# Altium integrated library Renesas Diode.IntLib: 1609 symbols (part 18 of 31)
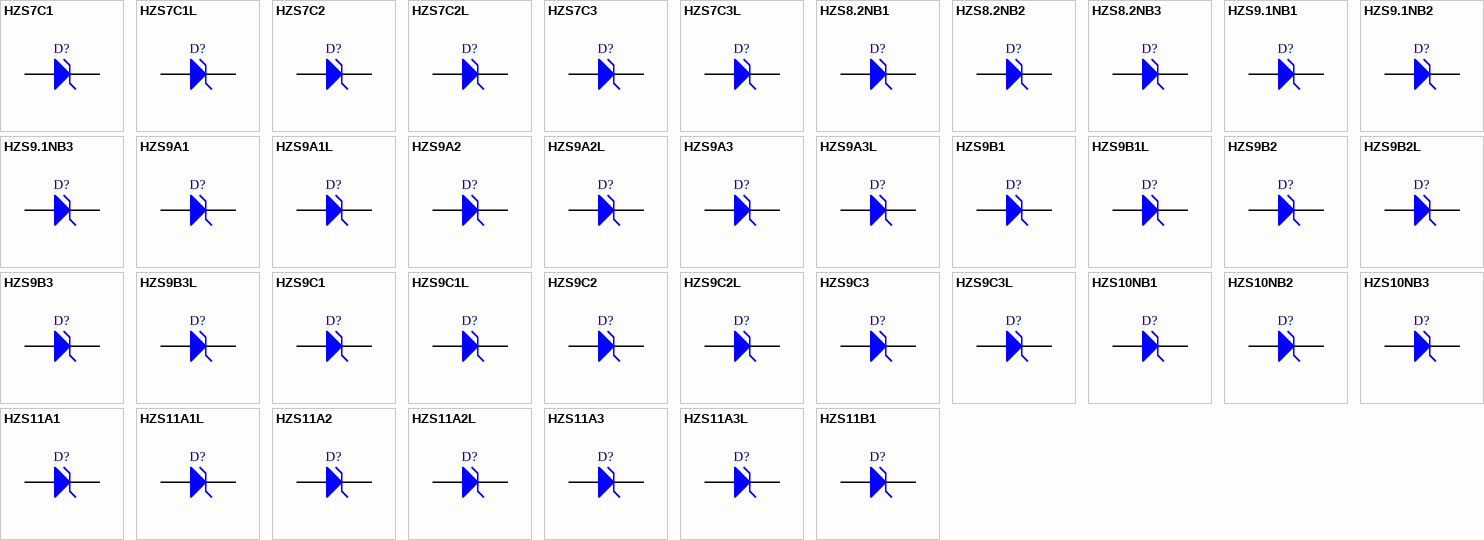
[diagram p62: symbols HZS7C1 to HZS11B1]

## HZS9A2L
designator D?
Silicon Epitaxial Planar Zener Diode for Low Noise Application; Published: 12-Feb-2010; DatasheetVersion: Rev.3.00, Nov-2007; PackageVersion: Jul-2006; PackageReference: GRZZ0002ZC-A; Publisher: Altium Limited; PackageDescription: Diode, Axial; Body 2.4 x 2.0 mm (LxDia.), Lead Dia. 0.4 mm (nom); ComponentLink1Description: Manufacturer Link; ComponentLink1URL: http://sg.renesas.com/fmwk.jsp?cnt=diode_landing.jsp&fp=/products/discrete/diodes/; ComponentLink2Description: Datasheet; ComponentLink2URL: http://documentation.renesas.com/eng/products/diode/rej03g0166_hzs_l.pdf; ComponentLink3Description: Packaging Specification; ComponentLink3URL: http://sg.renesas.com/media/products/common_info/package/pdf/diode/code/grzz0002zc_a.pdf
footprint GRZZ0002ZC-A (Diode, Axial; Body 2.4 x 2.2 mm (LxDia. max), Lead Dia. 0.4 mm (nom))
signal-integrity model HZS9A2L
pins: 1 K, 2 A

## HZS9A3
designator D?
Silicon Epitaxial Planar Zener Diode for Stabilized Power Supply; Published: 12-Feb-2010; DatasheetVersion: Rev.5.00, Oct-2007; PackageVersion: Jul-2006; PackageReference: GRZZ0002ZC-A; Publisher: Altium Limited; PackageDescription: Diode, Axial; Body 2.4 x 2.0 mm (LxDia.), Lead Dia. 0.4 mm (nom); ComponentLink1Description: Manufacturer Link; ComponentLink1URL: http://sg.renesas.com/fmwk.jsp?cnt=diode_landing.jsp&fp=/products/discrete/diodes/; ComponentLink2Description: Datasheet; ComponentLink2URL: http://documentation.renesas.com/eng/products/diode/rej03g0184_hzs.pdf; ComponentLink3Description: Packaging Specification; ComponentLink3URL: http://sg.renesas.com/media/products/common_info/package/pdf/diode/code/grzz0002zc_a.pdf
footprint GRZZ0002ZC-A (Diode, Axial; Body 2.4 x 2.2 mm (LxDia. max), Lead Dia. 0.4 mm (nom))
signal-integrity model HZS9A3
pins: 1 K, 2 A

## HZS9A3L
designator D?
Silicon Epitaxial Planar Zener Diode for Low Noise Application; Published: 12-Feb-2010; DatasheetVersion: Rev.3.00, Nov-2007; PackageVersion: Jul-2006; PackageReference: GRZZ0002ZC-A; Publisher: Altium Limited; PackageDescription: Diode, Axial; Body 2.4 x 2.0 mm (LxDia.), Lead Dia. 0.4 mm (nom); ComponentLink1Description: Manufacturer Link; ComponentLink1URL: http://sg.renesas.com/fmwk.jsp?cnt=diode_landing.jsp&fp=/products/discrete/diodes/; ComponentLink2Description: Datasheet; ComponentLink2URL: http://documentation.renesas.com/eng/products/diode/rej03g0166_hzs_l.pdf; ComponentLink3Description: Packaging Specification; ComponentLink3URL: http://sg.renesas.com/media/products/common_info/package/pdf/diode/code/grzz0002zc_a.pdf
footprint GRZZ0002ZC-A (Diode, Axial; Body 2.4 x 2.2 mm (LxDia. max), Lead Dia. 0.4 mm (nom))
signal-integrity model HZS9A3L
pins: 1 K, 2 A

## HZS9B1
designator D?
Silicon Epitaxial Planar Zener Diode for Stabilized Power Supply; Published: 12-Feb-2010; DatasheetVersion: Rev.5.00, Oct-2007; PackageVersion: Jul-2006; PackageReference: GRZZ0002ZC-A; Publisher: Altium Limited; PackageDescription: Diode, Axial; Body 2.4 x 2.0 mm (LxDia.), Lead Dia. 0.4 mm (nom); ComponentLink1Description: Manufacturer Link; ComponentLink1URL: http://sg.renesas.com/fmwk.jsp?cnt=diode_landing.jsp&fp=/products/discrete/diodes/; ComponentLink2Description: Datasheet; ComponentLink2URL: http://documentation.renesas.com/eng/products/diode/rej03g0184_hzs.pdf; ComponentLink3Description: Packaging Specification; ComponentLink3URL: http://sg.renesas.com/media/products/common_info/package/pdf/diode/code/grzz0002zc_a.pdf
footprint GRZZ0002ZC-A (Diode, Axial; Body 2.4 x 2.2 mm (LxDia. max), Lead Dia. 0.4 mm (nom))
signal-integrity model HZS9B1
pins: 1 K, 2 A

## HZS9B1L
designator D?
Silicon Epitaxial Planar Zener Diode for Low Noise Application; Published: 12-Feb-2010; DatasheetVersion: Rev.3.00, Nov-2007; PackageVersion: Jul-2006; PackageReference: GRZZ0002ZC-A; Publisher: Altium Limited; PackageDescription: Diode, Axial; Body 2.4 x 2.0 mm (LxDia.), Lead Dia. 0.4 mm (nom); ComponentLink1Description: Manufacturer Link; ComponentLink1URL: http://sg.renesas.com/fmwk.jsp?cnt=diode_landing.jsp&fp=/products/discrete/diodes/; ComponentLink2Description: Datasheet; ComponentLink2URL: http://documentation.renesas.com/eng/products/diode/rej03g0166_hzs_l.pdf; ComponentLink3Description: Packaging Specification; ComponentLink3URL: http://sg.renesas.com/media/products/common_info/package/pdf/diode/code/grzz0002zc_a.pdf
footprint GRZZ0002ZC-A (Diode, Axial; Body 2.4 x 2.2 mm (LxDia. max), Lead Dia. 0.4 mm (nom))
signal-integrity model HZS9B1L
pins: 1 K, 2 A

## HZS9B2
designator D?
Silicon Epitaxial Planar Zener Diode for Stabilized Power Supply; Published: 12-Feb-2010; DatasheetVersion: Rev.5.00, Oct-2007; PackageVersion: Jul-2006; PackageReference: GRZZ0002ZC-A; Publisher: Altium Limited; PackageDescription: Diode, Axial; Body 2.4 x 2.0 mm (LxDia.), Lead Dia. 0.4 mm (nom); ComponentLink1Description: Manufacturer Link; ComponentLink1URL: http://sg.renesas.com/fmwk.jsp?cnt=diode_landing.jsp&fp=/products/discrete/diodes/; ComponentLink2Description: Datasheet; ComponentLink2URL: http://documentation.renesas.com/eng/products/diode/rej03g0184_hzs.pdf; ComponentLink3Description: Packaging Specification; ComponentLink3URL: http://sg.renesas.com/media/products/common_info/package/pdf/diode/code/grzz0002zc_a.pdf
footprint GRZZ0002ZC-A (Diode, Axial; Body 2.4 x 2.2 mm (LxDia. max), Lead Dia. 0.4 mm (nom))
signal-integrity model HZS9B2
pins: 1 K, 2 A

## HZS9B2L
designator D?
Silicon Epitaxial Planar Zener Diode for Low Noise Application; Published: 12-Feb-2010; DatasheetVersion: Rev.3.00, Nov-2007; PackageVersion: Jul-2006; PackageReference: GRZZ0002ZC-A; Publisher: Altium Limited; PackageDescription: Diode, Axial; Body 2.4 x 2.0 mm (LxDia.), Lead Dia. 0.4 mm (nom); ComponentLink1Description: Manufacturer Link; ComponentLink1URL: http://sg.renesas.com/fmwk.jsp?cnt=diode_landing.jsp&fp=/products/discrete/diodes/; ComponentLink2Description: Datasheet; ComponentLink2URL: http://documentation.renesas.com/eng/products/diode/rej03g0166_hzs_l.pdf; ComponentLink3Description: Packaging Specification; ComponentLink3URL: http://sg.renesas.com/media/products/common_info/package/pdf/diode/code/grzz0002zc_a.pdf
footprint GRZZ0002ZC-A (Diode, Axial; Body 2.4 x 2.2 mm (LxDia. max), Lead Dia. 0.4 mm (nom))
signal-integrity model HZS9B2L
pins: 1 K, 2 A

## HZS9B3
designator D?
Silicon Epitaxial Planar Zener Diode for Stabilized Power Supply; Published: 12-Feb-2010; DatasheetVersion: Rev.5.00, Oct-2007; PackageVersion: Jul-2006; PackageReference: GRZZ0002ZC-A; Publisher: Altium Limited; PackageDescription: Diode, Axial; Body 2.4 x 2.0 mm (LxDia.), Lead Dia. 0.4 mm (nom); ComponentLink1Description: Manufacturer Link; ComponentLink1URL: http://sg.renesas.com/fmwk.jsp?cnt=diode_landing.jsp&fp=/products/discrete/diodes/; ComponentLink2Description: Datasheet; ComponentLink2URL: http://documentation.renesas.com/eng/products/diode/rej03g0184_hzs.pdf; ComponentLink3Description: Packaging Specification; ComponentLink3URL: http://sg.renesas.com/media/products/common_info/package/pdf/diode/code/grzz0002zc_a.pdf
footprint GRZZ0002ZC-A (Diode, Axial; Body 2.4 x 2.2 mm (LxDia. max), Lead Dia. 0.4 mm (nom))
signal-integrity model HZS9B3
pins: 1 K, 2 A

## HZS9B3L
designator D?
Silicon Epitaxial Planar Zener Diode for Low Noise Application; Published: 12-Feb-2010; DatasheetVersion: Rev.3.00, Nov-2007; PackageVersion: Jul-2006; PackageReference: GRZZ0002ZC-A; Publisher: Altium Limited; PackageDescription: Diode, Axial; Body 2.4 x 2.0 mm (LxDia.), Lead Dia. 0.4 mm (nom); ComponentLink1Description: Manufacturer Link; ComponentLink1URL: http://sg.renesas.com/fmwk.jsp?cnt=diode_landing.jsp&fp=/products/discrete/diodes/; ComponentLink2Description: Datasheet; ComponentLink2URL: http://documentation.renesas.com/eng/products/diode/rej03g0166_hzs_l.pdf; ComponentLink3Description: Packaging Specification; ComponentLink3URL: http://sg.renesas.com/media/products/common_info/package/pdf/diode/code/grzz0002zc_a.pdf
footprint GRZZ0002ZC-A (Diode, Axial; Body 2.4 x 2.2 mm (LxDia. max), Lead Dia. 0.4 mm (nom))
signal-integrity model HZS9B3L
pins: 1 K, 2 A

## HZS9C1
designator D?
Silicon Epitaxial Planar Zener Diode for Stabilized Power Supply; Published: 12-Feb-2010; DatasheetVersion: Rev.5.00, Oct-2007; PackageVersion: Jul-2006; PackageReference: GRZZ0002ZC-A; Publisher: Altium Limited; PackageDescription: Diode, Axial; Body 2.4 x 2.0 mm (LxDia.), Lead Dia. 0.4 mm (nom); ComponentLink1Description: Manufacturer Link; ComponentLink1URL: http://sg.renesas.com/fmwk.jsp?cnt=diode_landing.jsp&fp=/products/discrete/diodes/; ComponentLink2Description: Datasheet; ComponentLink2URL: http://documentation.renesas.com/eng/products/diode/rej03g0184_hzs.pdf; ComponentLink3Description: Packaging Specification; ComponentLink3URL: http://sg.renesas.com/media/products/common_info/package/pdf/diode/code/grzz0002zc_a.pdf
footprint GRZZ0002ZC-A (Diode, Axial; Body 2.4 x 2.2 mm (LxDia. max), Lead Dia. 0.4 mm (nom))
signal-integrity model HZS9C1
pins: 1 K, 2 A

## HZS9C1L
designator D?
Silicon Epitaxial Planar Zener Diode for Low Noise Application; Published: 12-Feb-2010; DatasheetVersion: Rev.3.00, Nov-2007; PackageVersion: Jul-2006; PackageReference: GRZZ0002ZC-A; Publisher: Altium Limited; PackageDescription: Diode, Axial; Body 2.4 x 2.0 mm (LxDia.), Lead Dia. 0.4 mm (nom); ComponentLink1Description: Manufacturer Link; ComponentLink1URL: http://sg.renesas.com/fmwk.jsp?cnt=diode_landing.jsp&fp=/products/discrete/diodes/; ComponentLink2Description: Datasheet; ComponentLink2URL: http://documentation.renesas.com/eng/products/diode/rej03g0166_hzs_l.pdf; ComponentLink3Description: Packaging Specification; ComponentLink3URL: http://sg.renesas.com/media/products/common_info/package/pdf/diode/code/grzz0002zc_a.pdf
footprint GRZZ0002ZC-A (Diode, Axial; Body 2.4 x 2.2 mm (LxDia. max), Lead Dia. 0.4 mm (nom))
signal-integrity model HZS9C1L
pins: 1 K, 2 A

## HZS9C2
designator D?
Silicon Epitaxial Planar Zener Diode for Stabilized Power Supply; Published: 12-Feb-2010; DatasheetVersion: Rev.5.00, Oct-2007; PackageVersion: Jul-2006; PackageReference: GRZZ0002ZC-A; Publisher: Altium Limited; PackageDescription: Diode, Axial; Body 2.4 x 2.0 mm (LxDia.), Lead Dia. 0.4 mm (nom); ComponentLink1Description: Manufacturer Link; ComponentLink1URL: http://sg.renesas.com/fmwk.jsp?cnt=diode_landing.jsp&fp=/products/discrete/diodes/; ComponentLink2Description: Datasheet; ComponentLink2URL: http://documentation.renesas.com/eng/products/diode/rej03g0184_hzs.pdf; ComponentLink3Description: Packaging Specification; ComponentLink3URL: http://sg.renesas.com/media/products/common_info/package/pdf/diode/code/grzz0002zc_a.pdf
footprint GRZZ0002ZC-A (Diode, Axial; Body 2.4 x 2.2 mm (LxDia. max), Lead Dia. 0.4 mm (nom))
signal-integrity model HZS9C2
pins: 1 K, 2 A

## HZS9C2L
designator D?
Silicon Epitaxial Planar Zener Diode for Low Noise Application; Published: 12-Feb-2010; DatasheetVersion: Rev.3.00, Nov-2007; PackageVersion: Jul-2006; PackageReference: GRZZ0002ZC-A; Publisher: Altium Limited; PackageDescription: Diode, Axial; Body 2.4 x 2.0 mm (LxDia.), Lead Dia. 0.4 mm (nom); ComponentLink1Description: Manufacturer Link; ComponentLink1URL: http://sg.renesas.com/fmwk.jsp?cnt=diode_landing.jsp&fp=/products/discrete/diodes/; ComponentLink2Description: Datasheet; ComponentLink2URL: http://documentation.renesas.com/eng/products/diode/rej03g0166_hzs_l.pdf; ComponentLink3Description: Packaging Specification; ComponentLink3URL: http://sg.renesas.com/media/products/common_info/package/pdf/diode/code/grzz0002zc_a.pdf
footprint GRZZ0002ZC-A (Diode, Axial; Body 2.4 x 2.2 mm (LxDia. max), Lead Dia. 0.4 mm (nom))
signal-integrity model HZS9C2L
pins: 1 K, 2 A

## HZS9C3
designator D?
Silicon Epitaxial Planar Zener Diode for Stabilized Power Supply; Published: 12-Feb-2010; DatasheetVersion: Rev.5.00, Oct-2007; PackageVersion: Jul-2006; PackageReference: GRZZ0002ZC-A; Publisher: Altium Limited; PackageDescription: Diode, Axial; Body 2.4 x 2.0 mm (LxDia.), Lead Dia. 0.4 mm (nom); ComponentLink1Description: Manufacturer Link; ComponentLink1URL: http://sg.renesas.com/fmwk.jsp?cnt=diode_landing.jsp&fp=/products/discrete/diodes/; ComponentLink2Description: Datasheet; ComponentLink2URL: http://documentation.renesas.com/eng/products/diode/rej03g0184_hzs.pdf; ComponentLink3Description: Packaging Specification; ComponentLink3URL: http://sg.renesas.com/media/products/common_info/package/pdf/diode/code/grzz0002zc_a.pdf
footprint GRZZ0002ZC-A (Diode, Axial; Body 2.4 x 2.2 mm (LxDia. max), Lead Dia. 0.4 mm (nom))
signal-integrity model HZS9C3
pins: 1 K, 2 A

## HZS9C3L
designator D?
Silicon Epitaxial Planar Zener Diode for Low Noise Application; Published: 12-Feb-2010; DatasheetVersion: Rev.3.00, Nov-2007; PackageVersion: Jul-2006; PackageReference: GRZZ0002ZC-A; Publisher: Altium Limited; PackageDescription: Diode, Axial; Body 2.4 x 2.0 mm (LxDia.), Lead Dia. 0.4 mm (nom); ComponentLink1Description: Manufacturer Link; ComponentLink1URL: http://sg.renesas.com/fmwk.jsp?cnt=diode_landing.jsp&fp=/products/discrete/diodes/; ComponentLink2Description: Datasheet; ComponentLink2URL: http://documentation.renesas.com/eng/products/diode/rej03g0166_hzs_l.pdf; ComponentLink3Description: Packaging Specification; ComponentLink3URL: http://sg.renesas.com/media/products/common_info/package/pdf/diode/code/grzz0002zc_a.pdf
footprint GRZZ0002ZC-A (Diode, Axial; Body 2.4 x 2.2 mm (LxDia. max), Lead Dia. 0.4 mm (nom))
signal-integrity model HZS9C3L
pins: 1 K, 2 A

## HZS10NB1
designator D?
Silicon Epitaxial Planar Zener Diodes for Stabilized Power Supply; Published: 12-Feb-2010; DatasheetVersion: Rev.3.00, Nov-2007; PackageVersion: Jul-2006; PackageReference: GRZZ0002ZC-A; Publisher: Altium Limited; PackageDescription: Diode, Axial; Body 2.4 x 2.0 mm (LxDia.), Lead Dia. 0.4 mm (nom); ComponentLink1Description: Manufacturer Link; ComponentLink1URL: http://sg.renesas.com/fmwk.jsp?cnt=diode_landing.jsp&fp=/products/discrete/diodes/; ComponentLink2Description: Datasheet; ComponentLink2URL: http://documentation.renesas.com/eng/products/diode/rej03g0185_hzs_n.pdf; ComponentLink3Description: Packaging Specification; ComponentLink3URL: http://sg.renesas.com/media/products/common_info/package/pdf/diode/code/grzz0002zc_a.pdf
footprint GRZZ0002ZC-A (Diode, Axial; Body 2.4 x 2.2 mm (LxDia. max), Lead Dia. 0.4 mm (nom))
signal-integrity model HZS10NB1
pins: 1 K, 2 A

## HZS10NB2
designator D?
Silicon Epitaxial Planar Zener Diodes for Stabilized Power Supply; Published: 12-Feb-2010; DatasheetVersion: Rev.3.00, Nov-2007; PackageVersion: Jul-2006; PackageReference: GRZZ0002ZC-A; Publisher: Altium Limited; PackageDescription: Diode, Axial; Body 2.4 x 2.0 mm (LxDia.), Lead Dia. 0.4 mm (nom); ComponentLink1Description: Manufacturer Link; ComponentLink1URL: http://sg.renesas.com/fmwk.jsp?cnt=diode_landing.jsp&fp=/products/discrete/diodes/; ComponentLink2Description: Datasheet; ComponentLink2URL: http://documentation.renesas.com/eng/products/diode/rej03g0185_hzs_n.pdf; ComponentLink3Description: Packaging Specification; ComponentLink3URL: http://sg.renesas.com/media/products/common_info/package/pdf/diode/code/grzz0002zc_a.pdf
footprint GRZZ0002ZC-A (Diode, Axial; Body 2.4 x 2.2 mm (LxDia. max), Lead Dia. 0.4 mm (nom))
signal-integrity model HZS10NB2
pins: 1 K, 2 A

## HZS10NB3
designator D?
Silicon Epitaxial Planar Zener Diodes for Stabilized Power Supply; Published: 12-Feb-2010; DatasheetVersion: Rev.3.00, Nov-2007; PackageVersion: Jul-2006; PackageReference: GRZZ0002ZC-A; Publisher: Altium Limited; PackageDescription: Diode, Axial; Body 2.4 x 2.0 mm (LxDia.), Lead Dia. 0.4 mm (nom); ComponentLink1Description: Manufacturer Link; ComponentLink1URL: http://sg.renesas.com/fmwk.jsp?cnt=diode_landing.jsp&fp=/products/discrete/diodes/; ComponentLink2Description: Datasheet; ComponentLink2URL: http://documentation.renesas.com/eng/products/diode/rej03g0185_hzs_n.pdf; ComponentLink3Description: Packaging Specification; ComponentLink3URL: http://sg.renesas.com/media/products/common_info/package/pdf/diode/code/grzz0002zc_a.pdf
footprint GRZZ0002ZC-A (Diode, Axial; Body 2.4 x 2.2 mm (LxDia. max), Lead Dia. 0.4 mm (nom))
signal-integrity model HZS10NB3
pins: 1 K, 2 A

## HZS11A1
designator D?
Silicon Epitaxial Planar Zener Diode for Stabilized Power Supply; Published: 12-Feb-2010; DatasheetVersion: Rev.5.00, Oct-2007; PackageVersion: Jul-2006; PackageReference: GRZZ0002ZC-A; Publisher: Altium Limited; PackageDescription: Diode, Axial; Body 2.4 x 2.0 mm (LxDia.), Lead Dia. 0.4 mm (nom); ComponentLink1Description: Manufacturer Link; ComponentLink1URL: http://sg.renesas.com/fmwk.jsp?cnt=diode_landing.jsp&fp=/products/discrete/diodes/; ComponentLink2Description: Datasheet; ComponentLink2URL: http://documentation.renesas.com/eng/products/diode/rej03g0184_hzs.pdf; ComponentLink3Description: Packaging Specification; ComponentLink3URL: http://sg.renesas.com/media/products/common_info/package/pdf/diode/code/grzz0002zc_a.pdf
footprint GRZZ0002ZC-A (Diode, Axial; Body 2.4 x 2.2 mm (LxDia. max), Lead Dia. 0.4 mm (nom))
signal-integrity model HZS11A1
pins: 1 K, 2 A

## HZS11A1L
designator D?
Silicon Epitaxial Planar Zener Diode for Low Noise Application; Published: 12-Feb-2010; DatasheetVersion: Rev.3.00, Nov-2007; PackageVersion: Jul-2006; PackageReference: GRZZ0002ZC-A; Publisher: Altium Limited; PackageDescription: Diode, Axial; Body 2.4 x 2.0 mm (LxDia.), Lead Dia. 0.4 mm (nom); ComponentLink1Description: Manufacturer Link; ComponentLink1URL: http://sg.renesas.com/fmwk.jsp?cnt=diode_landing.jsp&fp=/products/discrete/diodes/; ComponentLink2Description: Datasheet; ComponentLink2URL: http://documentation.renesas.com/eng/products/diode/rej03g0166_hzs_l.pdf; ComponentLink3Description: Packaging Specification; ComponentLink3URL: http://sg.renesas.com/media/products/common_info/package/pdf/diode/code/grzz0002zc_a.pdf
footprint GRZZ0002ZC-A (Diode, Axial; Body 2.4 x 2.2 mm (LxDia. max), Lead Dia. 0.4 mm (nom))
signal-integrity model HZS11A1L
pins: 1 K, 2 A

## HZS11A2
designator D?
Silicon Epitaxial Planar Zener Diode for Stabilized Power Supply; Published: 12-Feb-2010; DatasheetVersion: Rev.5.00, Oct-2007; PackageVersion: Jul-2006; PackageReference: GRZZ0002ZC-A; Publisher: Altium Limited; PackageDescription: Diode, Axial; Body 2.4 x 2.0 mm (LxDia.), Lead Dia. 0.4 mm (nom); ComponentLink1Description: Manufacturer Link; ComponentLink1URL: http://sg.renesas.com/fmwk.jsp?cnt=diode_landing.jsp&fp=/products/discrete/diodes/; ComponentLink2Description: Datasheet; ComponentLink2URL: http://documentation.renesas.com/eng/products/diode/rej03g0184_hzs.pdf; ComponentLink3Description: Packaging Specification; ComponentLink3URL: http://sg.renesas.com/media/products/common_info/package/pdf/diode/code/grzz0002zc_a.pdf
footprint GRZZ0002ZC-A (Diode, Axial; Body 2.4 x 2.2 mm (LxDia. max), Lead Dia. 0.4 mm (nom))
signal-integrity model HZS11A2
pins: 1 K, 2 A

## HZS11A2L
designator D?
Silicon Epitaxial Planar Zener Diode for Low Noise Application; Published: 12-Feb-2010; DatasheetVersion: Rev.3.00, Nov-2007; PackageVersion: Jul-2006; PackageReference: GRZZ0002ZC-A; Publisher: Altium Limited; PackageDescription: Diode, Axial; Body 2.4 x 2.0 mm (LxDia.), Lead Dia. 0.4 mm (nom); ComponentLink1Description: Manufacturer Link; ComponentLink1URL: http://sg.renesas.com/fmwk.jsp?cnt=diode_landing.jsp&fp=/products/discrete/diodes/; ComponentLink2Description: Datasheet; ComponentLink2URL: http://documentation.renesas.com/eng/products/diode/rej03g0166_hzs_l.pdf; ComponentLink3Description: Packaging Specification; ComponentLink3URL: http://sg.renesas.com/media/products/common_info/package/pdf/diode/code/grzz0002zc_a.pdf
footprint GRZZ0002ZC-A (Diode, Axial; Body 2.4 x 2.2 mm (LxDia. max), Lead Dia. 0.4 mm (nom))
signal-integrity model HZS11A2L
pins: 1 K, 2 A

## HZS11A3
designator D?
Silicon Epitaxial Planar Zener Diode for Stabilized Power Supply; Published: 12-Feb-2010; DatasheetVersion: Rev.5.00, Oct-2007; PackageVersion: Jul-2006; PackageReference: GRZZ0002ZC-A; Publisher: Altium Limited; PackageDescription: Diode, Axial; Body 2.4 x 2.0 mm (LxDia.), Lead Dia. 0.4 mm (nom); ComponentLink1Description: Manufacturer Link; ComponentLink1URL: http://sg.renesas.com/fmwk.jsp?cnt=diode_landing.jsp&fp=/products/discrete/diodes/; ComponentLink2Description: Datasheet; ComponentLink2URL: http://documentation.renesas.com/eng/products/diode/rej03g0184_hzs.pdf; ComponentLink3Description: Packaging Specification; ComponentLink3URL: http://sg.renesas.com/media/products/common_info/package/pdf/diode/code/grzz0002zc_a.pdf
footprint GRZZ0002ZC-A (Diode, Axial; Body 2.4 x 2.2 mm (LxDia. max), Lead Dia. 0.4 mm (nom))
signal-integrity model HZS11A3
pins: 1 K, 2 A

## HZS11A3L
designator D?
Silicon Epitaxial Planar Zener Diode for Low Noise Application; Published: 12-Feb-2010; DatasheetVersion: Rev.3.00, Nov-2007; PackageVersion: Jul-2006; PackageReference: GRZZ0002ZC-A; Publisher: Altium Limited; PackageDescription: Diode, Axial; Body 2.4 x 2.0 mm (LxDia.), Lead Dia. 0.4 mm (nom); ComponentLink1Description: Manufacturer Link; ComponentLink1URL: http://sg.renesas.com/fmwk.jsp?cnt=diode_landing.jsp&fp=/products/discrete/diodes/; ComponentLink2Description: Datasheet; ComponentLink2URL: http://documentation.renesas.com/eng/products/diode/rej03g0166_hzs_l.pdf; ComponentLink3Description: Packaging Specification; ComponentLink3URL: http://sg.renesas.com/media/products/common_info/package/pdf/diode/code/grzz0002zc_a.pdf
footprint GRZZ0002ZC-A (Diode, Axial; Body 2.4 x 2.2 mm (LxDia. max), Lead Dia. 0.4 mm (nom))
signal-integrity model HZS11A3L
pins: 1 K, 2 A

## HZS11B1
designator D?
Silicon Epitaxial Planar Zener Diode for Stabilized Power Supply; Published: 12-Feb-2010; DatasheetVersion: Rev.5.00, Oct-2007; PackageVersion: Jul-2006; PackageReference: GRZZ0002ZC-A; Publisher: Altium Limited; PackageDescription: Diode, Axial; Body 2.4 x 2.0 mm (LxDia.), Lead Dia. 0.4 mm (nom); ComponentLink1Description: Manufacturer Link; ComponentLink1URL: http://sg.renesas.com/fmwk.jsp?cnt=diode_landing.jsp&fp=/products/discrete/diodes/; ComponentLink2Description: Datasheet; ComponentLink2URL: http://documentation.renesas.com/eng/products/diode/rej03g0184_hzs.pdf; ComponentLink3Description: Packaging Specification; ComponentLink3URL: http://sg.renesas.com/media/products/common_info/package/pdf/diode/code/grzz0002zc_a.pdf
footprint GRZZ0002ZC-A (Diode, Axial; Body 2.4 x 2.2 mm (LxDia. max), Lead Dia. 0.4 mm (nom))
signal-integrity model HZS11B1
pins: 1 K, 2 A

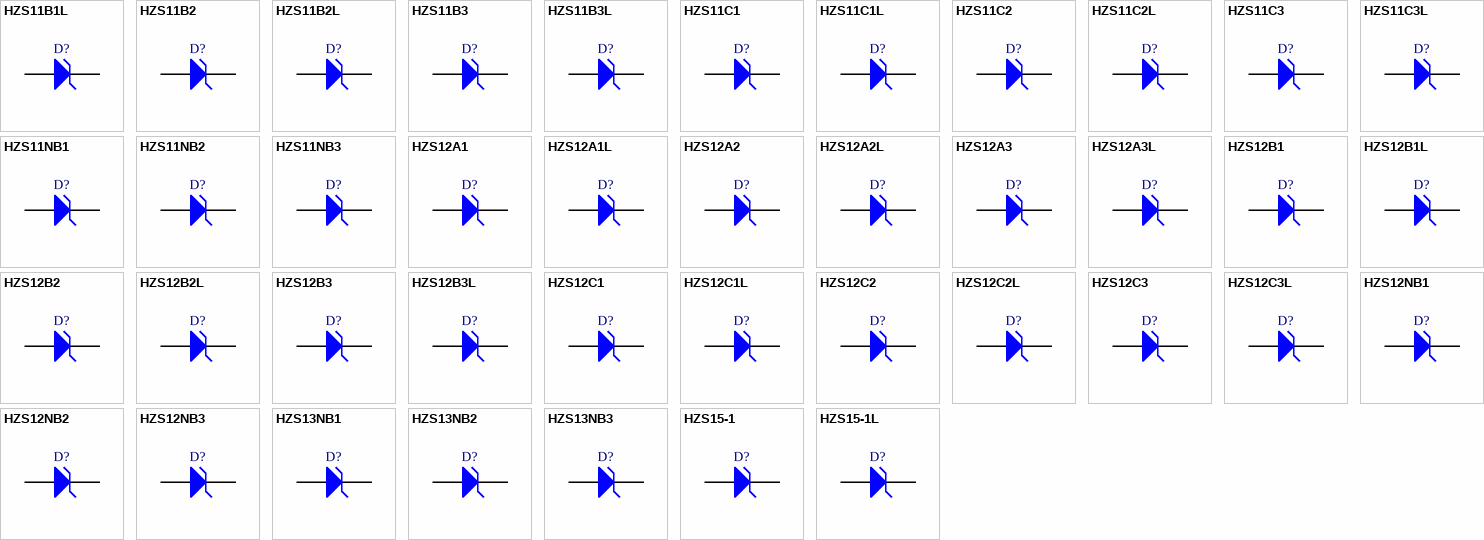
[diagram p25: symbols HZS11B1L to HZS15-1L]

## HZS11B1L
designator D?
Silicon Epitaxial Planar Zener Diode for Low Noise Application; Published: 12-Feb-2010; DatasheetVersion: Rev.3.00, Nov-2007; PackageVersion: Jul-2006; PackageReference: GRZZ0002ZC-A; Publisher: Altium Limited; PackageDescription: Diode, Axial; Body 2.4 x 2.0 mm (LxDia.), Lead Dia. 0.4 mm (nom); ComponentLink1Description: Manufacturer Link; ComponentLink1URL: http://sg.renesas.com/fmwk.jsp?cnt=diode_landing.jsp&fp=/products/discrete/diodes/; ComponentLink2Description: Datasheet; ComponentLink2URL: http://documentation.renesas.com/eng/products/diode/rej03g0166_hzs_l.pdf; ComponentLink3Description: Packaging Specification; ComponentLink3URL: http://sg.renesas.com/media/products/common_info/package/pdf/diode/code/grzz0002zc_a.pdf
footprint GRZZ0002ZC-A (Diode, Axial; Body 2.4 x 2.2 mm (LxDia. max), Lead Dia. 0.4 mm (nom))
signal-integrity model HZS11B1L
pins: 1 K, 2 A

## HZS11B2
designator D?
Silicon Epitaxial Planar Zener Diode for Stabilized Power Supply; Published: 12-Feb-2010; DatasheetVersion: Rev.5.00, Oct-2007; PackageVersion: Jul-2006; PackageReference: GRZZ0002ZC-A; Publisher: Altium Limited; PackageDescription: Diode, Axial; Body 2.4 x 2.0 mm (LxDia.), Lead Dia. 0.4 mm (nom); ComponentLink1Description: Manufacturer Link; ComponentLink1URL: http://sg.renesas.com/fmwk.jsp?cnt=diode_landing.jsp&fp=/products/discrete/diodes/; ComponentLink2Description: Datasheet; ComponentLink2URL: http://documentation.renesas.com/eng/products/diode/rej03g0184_hzs.pdf; ComponentLink3Description: Packaging Specification; ComponentLink3URL: http://sg.renesas.com/media/products/common_info/package/pdf/diode/code/grzz0002zc_a.pdf
footprint GRZZ0002ZC-A (Diode, Axial; Body 2.4 x 2.2 mm (LxDia. max), Lead Dia. 0.4 mm (nom))
signal-integrity model HZS11B2
pins: 1 K, 2 A

## HZS11B2L
designator D?
Silicon Epitaxial Planar Zener Diode for Low Noise Application; Published: 12-Feb-2010; DatasheetVersion: Rev.3.00, Nov-2007; PackageVersion: Jul-2006; PackageReference: GRZZ0002ZC-A; Publisher: Altium Limited; PackageDescription: Diode, Axial; Body 2.4 x 2.0 mm (LxDia.), Lead Dia. 0.4 mm (nom); ComponentLink1Description: Manufacturer Link; ComponentLink1URL: http://sg.renesas.com/fmwk.jsp?cnt=diode_landing.jsp&fp=/products/discrete/diodes/; ComponentLink2Description: Datasheet; ComponentLink2URL: http://documentation.renesas.com/eng/products/diode/rej03g0166_hzs_l.pdf; ComponentLink3Description: Packaging Specification; ComponentLink3URL: http://sg.renesas.com/media/products/common_info/package/pdf/diode/code/grzz0002zc_a.pdf
footprint GRZZ0002ZC-A (Diode, Axial; Body 2.4 x 2.2 mm (LxDia. max), Lead Dia. 0.4 mm (nom))
signal-integrity model HZS11B2L
pins: 1 K, 2 A

## HZS11B3
designator D?
Silicon Epitaxial Planar Zener Diode for Stabilized Power Supply; Published: 12-Feb-2010; DatasheetVersion: Rev.5.00, Oct-2007; PackageVersion: Jul-2006; PackageReference: GRZZ0002ZC-A; Publisher: Altium Limited; PackageDescription: Diode, Axial; Body 2.4 x 2.0 mm (LxDia.), Lead Dia. 0.4 mm (nom); ComponentLink1Description: Manufacturer Link; ComponentLink1URL: http://sg.renesas.com/fmwk.jsp?cnt=diode_landing.jsp&fp=/products/discrete/diodes/; ComponentLink2Description: Datasheet; ComponentLink2URL: http://documentation.renesas.com/eng/products/diode/rej03g0184_hzs.pdf; ComponentLink3Description: Packaging Specification; ComponentLink3URL: http://sg.renesas.com/media/products/common_info/package/pdf/diode/code/grzz0002zc_a.pdf
footprint GRZZ0002ZC-A (Diode, Axial; Body 2.4 x 2.2 mm (LxDia. max), Lead Dia. 0.4 mm (nom))
signal-integrity model HZS11B3
pins: 1 K, 2 A

## HZS11B3L
designator D?
Silicon Epitaxial Planar Zener Diode for Low Noise Application; Published: 12-Feb-2010; DatasheetVersion: Rev.3.00, Nov-2007; PackageVersion: Jul-2006; PackageReference: GRZZ0002ZC-A; Publisher: Altium Limited; PackageDescription: Diode, Axial; Body 2.4 x 2.0 mm (LxDia.), Lead Dia. 0.4 mm (nom); ComponentLink1Description: Manufacturer Link; ComponentLink1URL: http://sg.renesas.com/fmwk.jsp?cnt=diode_landing.jsp&fp=/products/discrete/diodes/; ComponentLink2Description: Datasheet; ComponentLink2URL: http://documentation.renesas.com/eng/products/diode/rej03g0166_hzs_l.pdf; ComponentLink3Description: Packaging Specification; ComponentLink3URL: http://sg.renesas.com/media/products/common_info/package/pdf/diode/code/grzz0002zc_a.pdf
footprint GRZZ0002ZC-A (Diode, Axial; Body 2.4 x 2.2 mm (LxDia. max), Lead Dia. 0.4 mm (nom))
signal-integrity model HZS11B3L
pins: 1 K, 2 A

## HZS11C1
designator D?
Silicon Epitaxial Planar Zener Diode for Stabilized Power Supply; Published: 12-Feb-2010; DatasheetVersion: Rev.5.00, Oct-2007; PackageVersion: Jul-2006; PackageReference: GRZZ0002ZC-A; Publisher: Altium Limited; PackageDescription: Diode, Axial; Body 2.4 x 2.0 mm (LxDia.), Lead Dia. 0.4 mm (nom); ComponentLink1Description: Manufacturer Link; ComponentLink1URL: http://sg.renesas.com/fmwk.jsp?cnt=diode_landing.jsp&fp=/products/discrete/diodes/; ComponentLink2Description: Datasheet; ComponentLink2URL: http://documentation.renesas.com/eng/products/diode/rej03g0184_hzs.pdf; ComponentLink3Description: Packaging Specification; ComponentLink3URL: http://sg.renesas.com/media/products/common_info/package/pdf/diode/code/grzz0002zc_a.pdf
footprint GRZZ0002ZC-A (Diode, Axial; Body 2.4 x 2.2 mm (LxDia. max), Lead Dia. 0.4 mm (nom))
signal-integrity model HZS11C1
pins: 1 K, 2 A

## HZS11C1L
designator D?
Silicon Epitaxial Planar Zener Diode for Low Noise Application; Published: 12-Feb-2010; DatasheetVersion: Rev.3.00, Nov-2007; PackageVersion: Jul-2006; PackageReference: GRZZ0002ZC-A; Publisher: Altium Limited; PackageDescription: Diode, Axial; Body 2.4 x 2.0 mm (LxDia.), Lead Dia. 0.4 mm (nom); ComponentLink1Description: Manufacturer Link; ComponentLink1URL: http://sg.renesas.com/fmwk.jsp?cnt=diode_landing.jsp&fp=/products/discrete/diodes/; ComponentLink2Description: Datasheet; ComponentLink2URL: http://documentation.renesas.com/eng/products/diode/rej03g0166_hzs_l.pdf; ComponentLink3Description: Packaging Specification; ComponentLink3URL: http://sg.renesas.com/media/products/common_info/package/pdf/diode/code/grzz0002zc_a.pdf
footprint GRZZ0002ZC-A (Diode, Axial; Body 2.4 x 2.2 mm (LxDia. max), Lead Dia. 0.4 mm (nom))
signal-integrity model HZS11C1L
pins: 1 K, 2 A

## HZS11C2
designator D?
Silicon Epitaxial Planar Zener Diode for Stabilized Power Supply; Published: 12-Feb-2010; DatasheetVersion: Rev.5.00, Oct-2007; PackageVersion: Jul-2006; PackageReference: GRZZ0002ZC-A; Publisher: Altium Limited; PackageDescription: Diode, Axial; Body 2.4 x 2.0 mm (LxDia.), Lead Dia. 0.4 mm (nom); ComponentLink1Description: Manufacturer Link; ComponentLink1URL: http://sg.renesas.com/fmwk.jsp?cnt=diode_landing.jsp&fp=/products/discrete/diodes/; ComponentLink2Description: Datasheet; ComponentLink2URL: http://documentation.renesas.com/eng/products/diode/rej03g0184_hzs.pdf; ComponentLink3Description: Packaging Specification; ComponentLink3URL: http://sg.renesas.com/media/products/common_info/package/pdf/diode/code/grzz0002zc_a.pdf
footprint GRZZ0002ZC-A (Diode, Axial; Body 2.4 x 2.2 mm (LxDia. max), Lead Dia. 0.4 mm (nom))
signal-integrity model HZS11C2
pins: 1 K, 2 A

## HZS11C2L
designator D?
Silicon Epitaxial Planar Zener Diode for Low Noise Application; Published: 12-Feb-2010; DatasheetVersion: Rev.3.00, Nov-2007; PackageVersion: Jul-2006; PackageReference: GRZZ0002ZC-A; Publisher: Altium Limited; PackageDescription: Diode, Axial; Body 2.4 x 2.0 mm (LxDia.), Lead Dia. 0.4 mm (nom); ComponentLink1Description: Manufacturer Link; ComponentLink1URL: http://sg.renesas.com/fmwk.jsp?cnt=diode_landing.jsp&fp=/products/discrete/diodes/; ComponentLink2Description: Datasheet; ComponentLink2URL: http://documentation.renesas.com/eng/products/diode/rej03g0166_hzs_l.pdf; ComponentLink3Description: Packaging Specification; ComponentLink3URL: http://sg.renesas.com/media/products/common_info/package/pdf/diode/code/grzz0002zc_a.pdf
footprint GRZZ0002ZC-A (Diode, Axial; Body 2.4 x 2.2 mm (LxDia. max), Lead Dia. 0.4 mm (nom))
signal-integrity model HZS11C2L
pins: 1 K, 2 A

## HZS11C3
designator D?
Silicon Epitaxial Planar Zener Diode for Stabilized Power Supply; Published: 12-Feb-2010; DatasheetVersion: Rev.5.00, Oct-2007; PackageVersion: Jul-2006; PackageReference: GRZZ0002ZC-A; Publisher: Altium Limited; PackageDescription: Diode, Axial; Body 2.4 x 2.0 mm (LxDia.), Lead Dia. 0.4 mm (nom); ComponentLink1Description: Manufacturer Link; ComponentLink1URL: http://sg.renesas.com/fmwk.jsp?cnt=diode_landing.jsp&fp=/products/discrete/diodes/; ComponentLink2Description: Datasheet; ComponentLink2URL: http://documentation.renesas.com/eng/products/diode/rej03g0184_hzs.pdf; ComponentLink3Description: Packaging Specification; ComponentLink3URL: http://sg.renesas.com/media/products/common_info/package/pdf/diode/code/grzz0002zc_a.pdf
footprint GRZZ0002ZC-A (Diode, Axial; Body 2.4 x 2.2 mm (LxDia. max), Lead Dia. 0.4 mm (nom))
signal-integrity model HZS11C3
pins: 1 K, 2 A

## HZS11C3L
designator D?
Silicon Epitaxial Planar Zener Diode for Low Noise Application; Published: 12-Feb-2010; DatasheetVersion: Rev.3.00, Nov-2007; PackageVersion: Jul-2006; PackageReference: GRZZ0002ZC-A; Publisher: Altium Limited; PackageDescription: Diode, Axial; Body 2.4 x 2.0 mm (LxDia.), Lead Dia. 0.4 mm (nom); ComponentLink1Description: Manufacturer Link; ComponentLink1URL: http://sg.renesas.com/fmwk.jsp?cnt=diode_landing.jsp&fp=/products/discrete/diodes/; ComponentLink2Description: Datasheet; ComponentLink2URL: http://documentation.renesas.com/eng/products/diode/rej03g0166_hzs_l.pdf; ComponentLink3Description: Packaging Specification; ComponentLink3URL: http://sg.renesas.com/media/products/common_info/package/pdf/diode/code/grzz0002zc_a.pdf
footprint GRZZ0002ZC-A (Diode, Axial; Body 2.4 x 2.2 mm (LxDia. max), Lead Dia. 0.4 mm (nom))
signal-integrity model HZS11C3L
pins: 1 K, 2 A

## HZS11NB1
designator D?
Silicon Epitaxial Planar Zener Diodes for Stabilized Power Supply; Published: 12-Feb-2010; DatasheetVersion: Rev.3.00, Nov-2007; PackageVersion: Jul-2006; PackageReference: GRZZ0002ZC-A; Publisher: Altium Limited; PackageDescription: Diode, Axial; Body 2.4 x 2.0 mm (LxDia.), Lead Dia. 0.4 mm (nom); ComponentLink1Description: Manufacturer Link; ComponentLink1URL: http://sg.renesas.com/fmwk.jsp?cnt=diode_landing.jsp&fp=/products/discrete/diodes/; ComponentLink2Description: Datasheet; ComponentLink2URL: http://documentation.renesas.com/eng/products/diode/rej03g0185_hzs_n.pdf; ComponentLink3Description: Packaging Specification; ComponentLink3URL: http://sg.renesas.com/media/products/common_info/package/pdf/diode/code/grzz0002zc_a.pdf
footprint GRZZ0002ZC-A (Diode, Axial; Body 2.4 x 2.2 mm (LxDia. max), Lead Dia. 0.4 mm (nom))
signal-integrity model HZS11NB1
pins: 1 K, 2 A

## HZS11NB2
designator D?
Silicon Epitaxial Planar Zener Diodes for Stabilized Power Supply; Published: 12-Feb-2010; DatasheetVersion: Rev.3.00, Nov-2007; PackageVersion: Jul-2006; PackageReference: GRZZ0002ZC-A; Publisher: Altium Limited; PackageDescription: Diode, Axial; Body 2.4 x 2.0 mm (LxDia.), Lead Dia. 0.4 mm (nom); ComponentLink1Description: Manufacturer Link; ComponentLink1URL: http://sg.renesas.com/fmwk.jsp?cnt=diode_landing.jsp&fp=/products/discrete/diodes/; ComponentLink2Description: Datasheet; ComponentLink2URL: http://documentation.renesas.com/eng/products/diode/rej03g0185_hzs_n.pdf; ComponentLink3Description: Packaging Specification; ComponentLink3URL: http://sg.renesas.com/media/products/common_info/package/pdf/diode/code/grzz0002zc_a.pdf
footprint GRZZ0002ZC-A (Diode, Axial; Body 2.4 x 2.2 mm (LxDia. max), Lead Dia. 0.4 mm (nom))
signal-integrity model HZS11NB2
pins: 1 K, 2 A

## HZS11NB3
designator D?
Silicon Epitaxial Planar Zener Diodes for Stabilized Power Supply; Published: 12-Feb-2010; DatasheetVersion: Rev.3.00, Nov-2007; PackageVersion: Jul-2006; PackageReference: GRZZ0002ZC-A; Publisher: Altium Limited; PackageDescription: Diode, Axial; Body 2.4 x 2.0 mm (LxDia.), Lead Dia. 0.4 mm (nom); ComponentLink1Description: Manufacturer Link; ComponentLink1URL: http://sg.renesas.com/fmwk.jsp?cnt=diode_landing.jsp&fp=/products/discrete/diodes/; ComponentLink2Description: Datasheet; ComponentLink2URL: http://documentation.renesas.com/eng/products/diode/rej03g0185_hzs_n.pdf; ComponentLink3Description: Packaging Specification; ComponentLink3URL: http://sg.renesas.com/media/products/common_info/package/pdf/diode/code/grzz0002zc_a.pdf
footprint GRZZ0002ZC-A (Diode, Axial; Body 2.4 x 2.2 mm (LxDia. max), Lead Dia. 0.4 mm (nom))
signal-integrity model HZS11NB3
pins: 1 K, 2 A

## HZS12A1
designator D?
Silicon Epitaxial Planar Zener Diode for Stabilized Power Supply; Published: 12-Feb-2010; DatasheetVersion: Rev.5.00, Oct-2007; PackageVersion: Jul-2006; PackageReference: GRZZ0002ZC-A; Publisher: Altium Limited; PackageDescription: Diode, Axial; Body 2.4 x 2.0 mm (LxDia.), Lead Dia. 0.4 mm (nom); ComponentLink1Description: Manufacturer Link; ComponentLink1URL: http://sg.renesas.com/fmwk.jsp?cnt=diode_landing.jsp&fp=/products/discrete/diodes/; ComponentLink2Description: Datasheet; ComponentLink2URL: http://documentation.renesas.com/eng/products/diode/rej03g0184_hzs.pdf; ComponentLink3Description: Packaging Specification; ComponentLink3URL: http://sg.renesas.com/media/products/common_info/package/pdf/diode/code/grzz0002zc_a.pdf
footprint GRZZ0002ZC-A (Diode, Axial; Body 2.4 x 2.2 mm (LxDia. max), Lead Dia. 0.4 mm (nom))
signal-integrity model HZS12A1
pins: 1 K, 2 A

## HZS12A1L
designator D?
Silicon Epitaxial Planar Zener Diode for Low Noise Application; Published: 12-Feb-2010; DatasheetVersion: Rev.3.00, Nov-2007; PackageVersion: Jul-2006; PackageReference: GRZZ0002ZC-A; Publisher: Altium Limited; PackageDescription: Diode, Axial; Body 2.4 x 2.0 mm (LxDia.), Lead Dia. 0.4 mm (nom); ComponentLink1Description: Manufacturer Link; ComponentLink1URL: http://sg.renesas.com/fmwk.jsp?cnt=diode_landing.jsp&fp=/products/discrete/diodes/; ComponentLink2Description: Datasheet; ComponentLink2URL: http://documentation.renesas.com/eng/products/diode/rej03g0166_hzs_l.pdf; ComponentLink3Description: Packaging Specification; ComponentLink3URL: http://sg.renesas.com/media/products/common_info/package/pdf/diode/code/grzz0002zc_a.pdf
footprint GRZZ0002ZC-A (Diode, Axial; Body 2.4 x 2.2 mm (LxDia. max), Lead Dia. 0.4 mm (nom))
signal-integrity model HZS12A1L
pins: 1 K, 2 A

## HZS12A2
designator D?
Silicon Epitaxial Planar Zener Diode for Stabilized Power Supply; Published: 12-Feb-2010; DatasheetVersion: Rev.5.00, Oct-2007; PackageVersion: Jul-2006; PackageReference: GRZZ0002ZC-A; Publisher: Altium Limited; PackageDescription: Diode, Axial; Body 2.4 x 2.0 mm (LxDia.), Lead Dia. 0.4 mm (nom); ComponentLink1Description: Manufacturer Link; ComponentLink1URL: http://sg.renesas.com/fmwk.jsp?cnt=diode_landing.jsp&fp=/products/discrete/diodes/; ComponentLink2Description: Datasheet; ComponentLink2URL: http://documentation.renesas.com/eng/products/diode/rej03g0184_hzs.pdf; ComponentLink3Description: Packaging Specification; ComponentLink3URL: http://sg.renesas.com/media/products/common_info/package/pdf/diode/code/grzz0002zc_a.pdf
footprint GRZZ0002ZC-A (Diode, Axial; Body 2.4 x 2.2 mm (LxDia. max), Lead Dia. 0.4 mm (nom))
signal-integrity model HZS12A2
pins: 1 K, 2 A

## HZS12A2L
designator D?
Silicon Epitaxial Planar Zener Diode for Low Noise Application; Published: 12-Feb-2010; DatasheetVersion: Rev.3.00, Nov-2007; PackageVersion: Jul-2006; PackageReference: GRZZ0002ZC-A; Publisher: Altium Limited; PackageDescription: Diode, Axial; Body 2.4 x 2.0 mm (LxDia.), Lead Dia. 0.4 mm (nom); ComponentLink1Description: Manufacturer Link; ComponentLink1URL: http://sg.renesas.com/fmwk.jsp?cnt=diode_landing.jsp&fp=/products/discrete/diodes/; ComponentLink2Description: Datasheet; ComponentLink2URL: http://documentation.renesas.com/eng/products/diode/rej03g0166_hzs_l.pdf; ComponentLink3Description: Packaging Specification; ComponentLink3URL: http://sg.renesas.com/media/products/common_info/package/pdf/diode/code/grzz0002zc_a.pdf
footprint GRZZ0002ZC-A (Diode, Axial; Body 2.4 x 2.2 mm (LxDia. max), Lead Dia. 0.4 mm (nom))
signal-integrity model HZS12A2L
pins: 1 K, 2 A

## HZS12A3
designator D?
Silicon Epitaxial Planar Zener Diode for Stabilized Power Supply; Published: 12-Feb-2010; DatasheetVersion: Rev.5.00, Oct-2007; PackageVersion: Jul-2006; PackageReference: GRZZ0002ZC-A; Publisher: Altium Limited; PackageDescription: Diode, Axial; Body 2.4 x 2.0 mm (LxDia.), Lead Dia. 0.4 mm (nom); ComponentLink1Description: Manufacturer Link; ComponentLink1URL: http://sg.renesas.com/fmwk.jsp?cnt=diode_landing.jsp&fp=/products/discrete/diodes/; ComponentLink2Description: Datasheet; ComponentLink2URL: http://documentation.renesas.com/eng/products/diode/rej03g0184_hzs.pdf; ComponentLink3Description: Packaging Specification; ComponentLink3URL: http://sg.renesas.com/media/products/common_info/package/pdf/diode/code/grzz0002zc_a.pdf
footprint GRZZ0002ZC-A (Diode, Axial; Body 2.4 x 2.2 mm (LxDia. max), Lead Dia. 0.4 mm (nom))
signal-integrity model HZS12A3
pins: 1 K, 2 A

## HZS12A3L
designator D?
Silicon Epitaxial Planar Zener Diode for Low Noise Application; Published: 12-Feb-2010; DatasheetVersion: Rev.3.00, Nov-2007; PackageVersion: Jul-2006; PackageReference: GRZZ0002ZC-A; Publisher: Altium Limited; PackageDescription: Diode, Axial; Body 2.4 x 2.0 mm (LxDia.), Lead Dia. 0.4 mm (nom); ComponentLink1Description: Manufacturer Link; ComponentLink1URL: http://sg.renesas.com/fmwk.jsp?cnt=diode_landing.jsp&fp=/products/discrete/diodes/; ComponentLink2Description: Datasheet; ComponentLink2URL: http://documentation.renesas.com/eng/products/diode/rej03g0166_hzs_l.pdf; ComponentLink3Description: Packaging Specification; ComponentLink3URL: http://sg.renesas.com/media/products/common_info/package/pdf/diode/code/grzz0002zc_a.pdf
footprint GRZZ0002ZC-A (Diode, Axial; Body 2.4 x 2.2 mm (LxDia. max), Lead Dia. 0.4 mm (nom))
signal-integrity model HZS12A3L
pins: 1 K, 2 A

## HZS12B1
designator D?
Silicon Epitaxial Planar Zener Diode for Stabilized Power Supply; Published: 12-Feb-2010; DatasheetVersion: Rev.5.00, Oct-2007; PackageVersion: Jul-2006; PackageReference: GRZZ0002ZC-A; Publisher: Altium Limited; PackageDescription: Diode, Axial; Body 2.4 x 2.0 mm (LxDia.), Lead Dia. 0.4 mm (nom); ComponentLink1Description: Manufacturer Link; ComponentLink1URL: http://sg.renesas.com/fmwk.jsp?cnt=diode_landing.jsp&fp=/products/discrete/diodes/; ComponentLink2Description: Datasheet; ComponentLink2URL: http://documentation.renesas.com/eng/products/diode/rej03g0184_hzs.pdf; ComponentLink3Description: Packaging Specification; ComponentLink3URL: http://sg.renesas.com/media/products/common_info/package/pdf/diode/code/grzz0002zc_a.pdf
footprint GRZZ0002ZC-A (Diode, Axial; Body 2.4 x 2.2 mm (LxDia. max), Lead Dia. 0.4 mm (nom))
signal-integrity model HZS12B1
pins: 1 K, 2 A

## HZS12B1L
designator D?
Silicon Epitaxial Planar Zener Diode for Low Noise Application; Published: 12-Feb-2010; DatasheetVersion: Rev.3.00, Nov-2007; PackageVersion: Jul-2006; PackageReference: GRZZ0002ZC-A; Publisher: Altium Limited; PackageDescription: Diode, Axial; Body 2.4 x 2.0 mm (LxDia.), Lead Dia. 0.4 mm (nom); ComponentLink1Description: Manufacturer Link; ComponentLink1URL: http://sg.renesas.com/fmwk.jsp?cnt=diode_landing.jsp&fp=/products/discrete/diodes/; ComponentLink2Description: Datasheet; ComponentLink2URL: http://documentation.renesas.com/eng/products/diode/rej03g0166_hzs_l.pdf; ComponentLink3Description: Packaging Specification; ComponentLink3URL: http://sg.renesas.com/media/products/common_info/package/pdf/diode/code/grzz0002zc_a.pdf
footprint GRZZ0002ZC-A (Diode, Axial; Body 2.4 x 2.2 mm (LxDia. max), Lead Dia. 0.4 mm (nom))
signal-integrity model HZS12B1L
pins: 1 K, 2 A

## HZS12B2
designator D?
Silicon Epitaxial Planar Zener Diode for Stabilized Power Supply; Published: 12-Feb-2010; DatasheetVersion: Rev.5.00, Oct-2007; PackageVersion: Jul-2006; PackageReference: GRZZ0002ZC-A; Publisher: Altium Limited; PackageDescription: Diode, Axial; Body 2.4 x 2.0 mm (LxDia.), Lead Dia. 0.4 mm (nom); ComponentLink1Description: Manufacturer Link; ComponentLink1URL: http://sg.renesas.com/fmwk.jsp?cnt=diode_landing.jsp&fp=/products/discrete/diodes/; ComponentLink2Description: Datasheet; ComponentLink2URL: http://documentation.renesas.com/eng/products/diode/rej03g0184_hzs.pdf; ComponentLink3Description: Packaging Specification; ComponentLink3URL: http://sg.renesas.com/media/products/common_info/package/pdf/diode/code/grzz0002zc_a.pdf
footprint GRZZ0002ZC-A (Diode, Axial; Body 2.4 x 2.2 mm (LxDia. max), Lead Dia. 0.4 mm (nom))
signal-integrity model HZS12B2
pins: 1 K, 2 A

## HZS12B2L
designator D?
Silicon Epitaxial Planar Zener Diode for Low Noise Application; Published: 12-Feb-2010; DatasheetVersion: Rev.3.00, Nov-2007; PackageVersion: Jul-2006; PackageReference: GRZZ0002ZC-A; Publisher: Altium Limited; PackageDescription: Diode, Axial; Body 2.4 x 2.0 mm (LxDia.), Lead Dia. 0.4 mm (nom); ComponentLink1Description: Manufacturer Link; ComponentLink1URL: http://sg.renesas.com/fmwk.jsp?cnt=diode_landing.jsp&fp=/products/discrete/diodes/; ComponentLink2Description: Datasheet; ComponentLink2URL: http://documentation.renesas.com/eng/products/diode/rej03g0166_hzs_l.pdf; ComponentLink3Description: Packaging Specification; ComponentLink3URL: http://sg.renesas.com/media/products/common_info/package/pdf/diode/code/grzz0002zc_a.pdf
footprint GRZZ0002ZC-A (Diode, Axial; Body 2.4 x 2.2 mm (LxDia. max), Lead Dia. 0.4 mm (nom))
signal-integrity model HZS12B2L
pins: 1 K, 2 A

## HZS12B3
designator D?
Silicon Epitaxial Planar Zener Diode for Stabilized Power Supply; Published: 12-Feb-2010; DatasheetVersion: Rev.5.00, Oct-2007; PackageVersion: Jul-2006; PackageReference: GRZZ0002ZC-A; Publisher: Altium Limited; PackageDescription: Diode, Axial; Body 2.4 x 2.0 mm (LxDia.), Lead Dia. 0.4 mm (nom); ComponentLink1Description: Manufacturer Link; ComponentLink1URL: http://sg.renesas.com/fmwk.jsp?cnt=diode_landing.jsp&fp=/products/discrete/diodes/; ComponentLink2Description: Datasheet; ComponentLink2URL: http://documentation.renesas.com/eng/products/diode/rej03g0184_hzs.pdf; ComponentLink3Description: Packaging Specification; ComponentLink3URL: http://sg.renesas.com/media/products/common_info/package/pdf/diode/code/grzz0002zc_a.pdf
footprint GRZZ0002ZC-A (Diode, Axial; Body 2.4 x 2.2 mm (LxDia. max), Lead Dia. 0.4 mm (nom))
signal-integrity model HZS12B3
pins: 1 K, 2 A

## HZS12B3L
designator D?
Silicon Epitaxial Planar Zener Diode for Low Noise Application; Published: 12-Feb-2010; DatasheetVersion: Rev.3.00, Nov-2007; PackageVersion: Jul-2006; PackageReference: GRZZ0002ZC-A; Publisher: Altium Limited; PackageDescription: Diode, Axial; Body 2.4 x 2.0 mm (LxDia.), Lead Dia. 0.4 mm (nom); ComponentLink1Description: Manufacturer Link; ComponentLink1URL: http://sg.renesas.com/fmwk.jsp?cnt=diode_landing.jsp&fp=/products/discrete/diodes/; ComponentLink2Description: Datasheet; ComponentLink2URL: http://documentation.renesas.com/eng/products/diode/rej03g0166_hzs_l.pdf; ComponentLink3Description: Packaging Specification; ComponentLink3URL: http://sg.renesas.com/media/products/common_info/package/pdf/diode/code/grzz0002zc_a.pdf
footprint GRZZ0002ZC-A (Diode, Axial; Body 2.4 x 2.2 mm (LxDia. max), Lead Dia. 0.4 mm (nom))
signal-integrity model HZS12B3L
pins: 1 K, 2 A

## HZS12C1
designator D?
Silicon Epitaxial Planar Zener Diode for Stabilized Power Supply; Published: 12-Feb-2010; DatasheetVersion: Rev.5.00, Oct-2007; PackageVersion: Jul-2006; PackageReference: GRZZ0002ZC-A; Publisher: Altium Limited; PackageDescription: Diode, Axial; Body 2.4 x 2.0 mm (LxDia.), Lead Dia. 0.4 mm (nom); ComponentLink1Description: Manufacturer Link; ComponentLink1URL: http://sg.renesas.com/fmwk.jsp?cnt=diode_landing.jsp&fp=/products/discrete/diodes/; ComponentLink2Description: Datasheet; ComponentLink2URL: http://documentation.renesas.com/eng/products/diode/rej03g0184_hzs.pdf; ComponentLink3Description: Packaging Specification; ComponentLink3URL: http://sg.renesas.com/media/products/common_info/package/pdf/diode/code/grzz0002zc_a.pdf
footprint GRZZ0002ZC-A (Diode, Axial; Body 2.4 x 2.2 mm (LxDia. max), Lead Dia. 0.4 mm (nom))
signal-integrity model HZS12C1
pins: 1 K, 2 A

## HZS12C1L
designator D?
Silicon Epitaxial Planar Zener Diode for Low Noise Application; Published: 12-Feb-2010; DatasheetVersion: Rev.3.00, Nov-2007; PackageVersion: Jul-2006; PackageReference: GRZZ0002ZC-A; Publisher: Altium Limited; PackageDescription: Diode, Axial; Body 2.4 x 2.0 mm (LxDia.), Lead Dia. 0.4 mm (nom); ComponentLink1Description: Manufacturer Link; ComponentLink1URL: http://sg.renesas.com/fmwk.jsp?cnt=diode_landing.jsp&fp=/products/discrete/diodes/; ComponentLink2Description: Datasheet; ComponentLink2URL: http://documentation.renesas.com/eng/products/diode/rej03g0166_hzs_l.pdf; ComponentLink3Description: Packaging Specification; ComponentLink3URL: http://sg.renesas.com/media/products/common_info/package/pdf/diode/code/grzz0002zc_a.pdf
footprint GRZZ0002ZC-A (Diode, Axial; Body 2.4 x 2.2 mm (LxDia. max), Lead Dia. 0.4 mm (nom))
signal-integrity model HZS12C1L
pins: 1 K, 2 A

## HZS12C2
designator D?
Silicon Epitaxial Planar Zener Diode for Stabilized Power Supply; Published: 12-Feb-2010; DatasheetVersion: Rev.5.00, Oct-2007; PackageVersion: Jul-2006; PackageReference: GRZZ0002ZC-A; Publisher: Altium Limited; PackageDescription: Diode, Axial; Body 2.4 x 2.0 mm (LxDia.), Lead Dia. 0.4 mm (nom); ComponentLink1Description: Manufacturer Link; ComponentLink1URL: http://sg.renesas.com/fmwk.jsp?cnt=diode_landing.jsp&fp=/products/discrete/diodes/; ComponentLink2Description: Datasheet; ComponentLink2URL: http://documentation.renesas.com/eng/products/diode/rej03g0184_hzs.pdf; ComponentLink3Description: Packaging Specification; ComponentLink3URL: http://sg.renesas.com/media/products/common_info/package/pdf/diode/code/grzz0002zc_a.pdf
footprint GRZZ0002ZC-A (Diode, Axial; Body 2.4 x 2.2 mm (LxDia. max), Lead Dia. 0.4 mm (nom))
signal-integrity model HZS12C2
pins: 1 K, 2 A

## HZS12C2L
designator D?
Silicon Epitaxial Planar Zener Diode for Low Noise Application; Published: 12-Feb-2010; DatasheetVersion: Rev.3.00, Nov-2007; PackageVersion: Jul-2006; PackageReference: GRZZ0002ZC-A; Publisher: Altium Limited; PackageDescription: Diode, Axial; Body 2.4 x 2.0 mm (LxDia.), Lead Dia. 0.4 mm (nom); ComponentLink1Description: Manufacturer Link; ComponentLink1URL: http://sg.renesas.com/fmwk.jsp?cnt=diode_landing.jsp&fp=/products/discrete/diodes/; ComponentLink2Description: Datasheet; ComponentLink2URL: http://documentation.renesas.com/eng/products/diode/rej03g0166_hzs_l.pdf; ComponentLink3Description: Packaging Specification; ComponentLink3URL: http://sg.renesas.com/media/products/common_info/package/pdf/diode/code/grzz0002zc_a.pdf
footprint GRZZ0002ZC-A (Diode, Axial; Body 2.4 x 2.2 mm (LxDia. max), Lead Dia. 0.4 mm (nom))
signal-integrity model HZS12C2L
pins: 1 K, 2 A